# Altium footprint library Connector_Samtec_HLE_SMD.PcbLib: 290 footprints (part 11 of 24)
Each footprint in its own frame and in the unit in brackets; x right, y up, seen from the top. Pads: shape width x height; smd on the part's side, far side on the other; paste and mask are expansions set on the pad; w line width, h text height; cw(c..) or ccw(c..) is an arc to the next point about the centre after c.
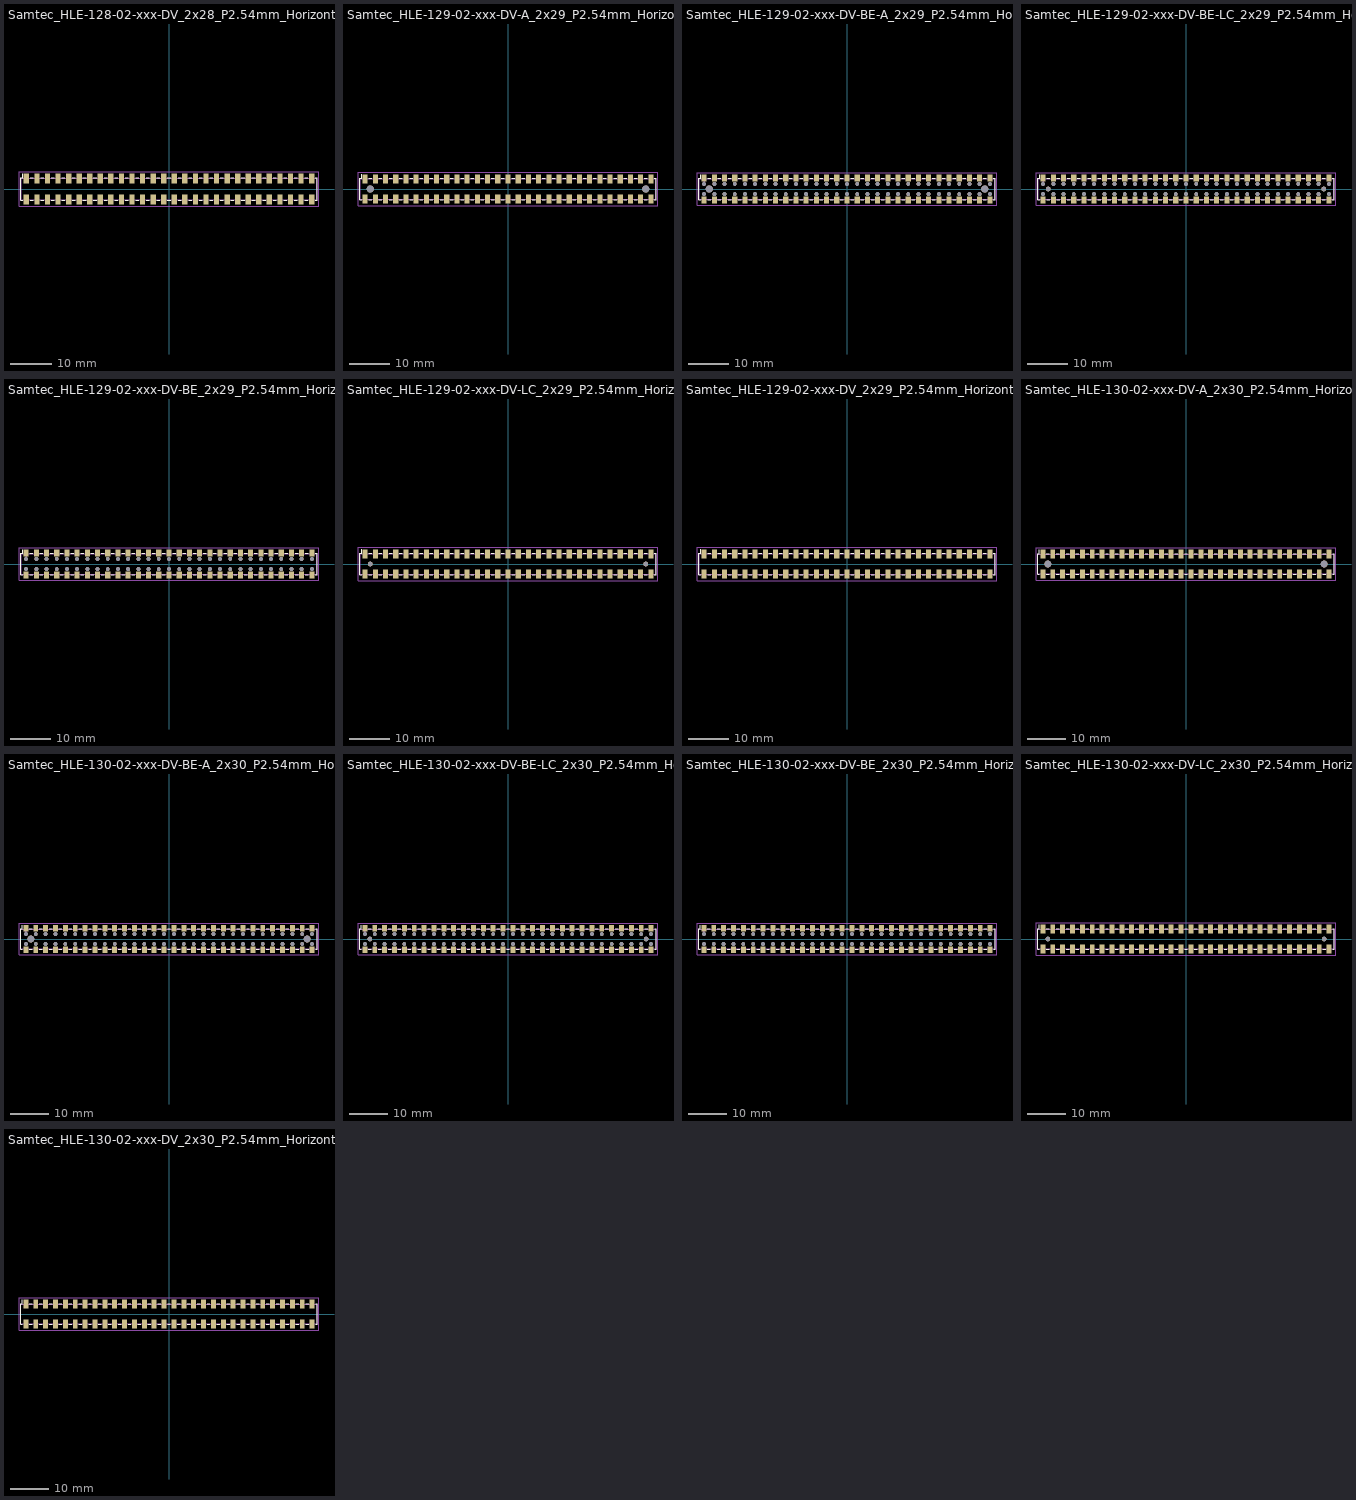
[diagram p10: the footprints below, top view; thin cyan lines are the x and y axes]

## Samtec_HLE-128-02-xxx-DV_2x28_P2.54mm_Horizontal [mm]
pads (56):
  rect 1.27x2.29 smd: 1(-34.29,2.525) 2(-34.29,-2.525) 3(-31.75,2.525) 4(-31.75,-2.525) 5(-29.21,2.525) 6(-29.21,-2.525) 7(-26.67,2.525) 8(-26.67,-2.525) 9(-24.13,2.525) 10(-24.13,-2.525) 11(-21.59,2.525) 12(-21.59,-2.525) 13(-19.05,2.525) 14(-19.05,-2.525) 15(-16.51,2.525) 16(-16.51,-2.525) 17(-13.97,2.525) 18(-13.97,-2.525) 19(-11.43,2.525) 20(-11.43,-2.525) 21(-8.89,2.525) 22(-8.89,-2.525) 23(-6.35,2.525) 24(-6.35,-2.525) 25(-3.81,2.525) 26(-3.81,-2.525) 27(-1.27,2.525) 28(-1.27,-2.525) 29(1.27,2.525) 30(1.27,-2.525) 31(3.81,2.525) 32(3.81,-2.525) 33(6.35,2.525) 34(6.35,-2.525) 35(8.89,2.525) 36(8.89,-2.525) 37(11.43,2.525) 38(11.43,-2.525) 39(13.97,2.525) 40(13.97,-2.525) 41(16.51,2.525) 42(16.51,-2.525) 43(19.05,2.525) 44(19.05,-2.525) 45(21.59,2.525) 46(21.59,-2.525) 47(24.13,2.525) 48(24.13,-2.525) 49(26.67,2.525) 50(26.67,-2.525) 51(29.21,2.525) 52(29.21,-2.525) 53(31.75,2.525) 54(31.75,-2.525) 55(34.29,2.525) 56(34.29,-2.525)
F.SilkS:
  lines w0.254: -35.185,-2.65 -35.67,-2.65 -35.67,2.65 -35.185,2.65 -35.185,3.67 ; -33.395,-2.65 -32.645,-2.65 ; -33.395,2.65 -32.645,2.65 ; -30.855,-2.65 -30.105,-2.65 ; -30.855,2.65 -30.105,2.65 ; -28.315,-2.65 -27.565,-2.65 ; -28.315,2.65 -27.565,2.65 ; -25.775,-2.65 -25.025,-2.65 ; -25.775,2.65 -25.025,2.65 ; -23.235,-2.65 -22.485,-2.65 ; -23.235,2.65 -22.485,2.65 ; -20.695,-2.65 -19.945,-2.65 ; -20.695,2.65 -19.945,2.65 ; -18.155,-2.65 -17.405,-2.65 ; -18.155,2.65 -17.405,2.65 ; -15.615,-2.65 -14.865,-2.65 ; -15.615,2.65 -14.865,2.65 ; -13.075,-2.65 -12.325,-2.65 ; -13.075,2.65 -12.325,2.65 ; -10.535,-2.65 -9.785,-2.65 ; -10.535,2.65 -9.785,2.65 ; -7.995,-2.65 -7.245,-2.65 ; -7.995,2.65 -7.245,2.65 ; -5.455,-2.65 -4.705,-2.65 ; -5.455,2.65 -4.705,2.65 ; -2.915,-2.65 -2.165,-2.65 ; -2.915,2.65 -2.165,2.65 ; -0.375,-2.65 0.375,-2.65 ; -0.375,2.65 0.375,2.65 ; 2.165,-2.65 2.915,-2.65 ; 2.165,2.65 2.915,2.65 ; 4.705,-2.65 5.455,-2.65 ; 4.705,2.65 5.455,2.65 ; 7.245,-2.65 7.995,-2.65 ; 7.245,2.65 7.995,2.65 ; 9.785,-2.65 10.535,-2.65 ; 9.785,2.65 10.535,2.65 ; 12.325,-2.65 13.075,-2.65 ; 12.325,2.65 13.075,2.65 ; 14.865,-2.65 15.615,-2.65 ; 14.865,2.65 15.615,2.65 ; 17.405,-2.65 18.155,-2.65 ; 17.405,2.65 18.155,2.65 ; 19.945,-2.65 20.695,-2.65 ; 19.945,2.65 20.695,2.65 ; 22.485,-2.65 23.235,-2.65 ; 22.485,2.65 23.235,2.65 ; 25.025,-2.65 25.775,-2.65 ; 25.025,2.65 25.775,2.65 ; 27.565,-2.65 28.315,-2.65 ; 27.565,2.65 28.315,2.65 ; 30.105,-2.65 30.855,-2.65 ; 30.105,2.65 30.855,2.65 ; 32.645,-2.65 33.395,-2.65 ; 32.645,2.65 33.395,2.65 ; 35.185,-2.65 35.67,-2.65 35.67,2.65 35.185,2.65
Top Assembly:
  lines w0.254: -34.79,2.54 -34.29,1.833 -33.79,2.54 ; -35.56,-2.54 35.56,-2.54 35.56,2.54 -35.56,2.54 -35.56,-2.54
  text "'.Designator'" at -4.047,-2.68 h1
Top Courtyard:
  lines w0.254: -36.06,-4.17 36.06,-4.17 36.06,4.17 -36.06,4.17 -36.06,-4.17
Top Designator:
  text ".Designator" at -7.618,-0.508 h1.52

## Samtec_HLE-129-02-xxx-DV-A_2x29_P2.54mm_Horizontal [mm]
pads (60):
  rect 1.27x2.29 smd: 1(-35.56,2.525) 2(-35.56,-2.525) 3(-33.02,2.525) 4(-33.02,-2.525) 5(-30.48,2.525) 6(-30.48,-2.525) 7(-27.94,2.525) 8(-27.94,-2.525) 9(-25.4,2.525) 10(-25.4,-2.525) 11(-22.86,2.525) 12(-22.86,-2.525) 13(-20.32,2.525) 14(-20.32,-2.525) 15(-17.78,2.525) 16(-17.78,-2.525) 17(-15.24,2.525) 18(-15.24,-2.525) 19(-12.7,2.525) 20(-12.7,-2.525) 21(-10.16,2.525) 22(-10.16,-2.525) 23(-7.62,2.525) 24(-7.62,-2.525) 25(-5.08,2.525) 26(-5.08,-2.525) 27(-2.54,2.525) 28(-2.54,-2.525) 29(0,2.525) 30(0,-2.525) 31(2.54,2.525) 32(2.54,-2.525) 33(5.08,2.525) 34(5.08,-2.525) 35(7.62,2.525) 36(7.62,-2.525) 37(10.16,2.525) 38(10.16,-2.525) 39(12.7,2.525) 40(12.7,-2.525) 41(15.24,2.525) 42(15.24,-2.525) 43(17.78,2.525) 44(17.78,-2.525) 45(20.32,2.525) 46(20.32,-2.525) 47(22.86,2.525) 48(22.86,-2.525) 49(25.4,2.525) 50(25.4,-2.525) 51(27.94,2.525) 52(27.94,-2.525) 53(30.48,2.525) 54(30.48,-2.525) 55(33.02,2.525) 56(33.02,-2.525) 57(35.56,2.525) 58(35.56,-2.525)
  round 1.78 hole 1.78: Un1(-34.29,0) Un2(34.29,0)
F.SilkS:
  lines w0.254: -36.455,-2.65 -36.94,-2.65 -36.94,2.65 -36.455,2.65 -36.455,3.67 ; -34.665,-2.65 -33.915,-2.65 ; -34.665,2.65 -33.915,2.65 ; -32.125,-2.65 -31.375,-2.65 ; -32.125,2.65 -31.375,2.65 ; -29.585,-2.65 -28.835,-2.65 ; -29.585,2.65 -28.835,2.65 ; -27.045,-2.65 -26.295,-2.65 ; -27.045,2.65 -26.295,2.65 ; -24.505,-2.65 -23.755,-2.65 ; -24.505,2.65 -23.755,2.65 ; -21.965,-2.65 -21.215,-2.65 ; -21.965,2.65 -21.215,2.65 ; -19.425,-2.65 -18.675,-2.65 ; -19.425,2.65 -18.675,2.65 ; -16.885,-2.65 -16.135,-2.65 ; -16.885,2.65 -16.135,2.65 ; -14.345,-2.65 -13.595,-2.65 ; -14.345,2.65 -13.595,2.65 ; -11.805,-2.65 -11.055,-2.65 ; -11.805,2.65 -11.055,2.65 ; -9.265,-2.65 -8.515,-2.65 ; -9.265,2.65 -8.515,2.65 ; -6.725,-2.65 -5.975,-2.65 ; -6.725,2.65 -5.975,2.65 ; -4.185,-2.65 -3.435,-2.65 ; -4.185,2.65 -3.435,2.65 ; -1.645,-2.65 -0.895,-2.65 ; -1.645,2.65 -0.895,2.65 ; 0.895,-2.65 1.645,-2.65 ; 0.895,2.65 1.645,2.65 ; 3.435,-2.65 4.185,-2.65 ; 3.435,2.65 4.185,2.65 ; 5.975,-2.65 6.725,-2.65 ; 5.975,2.65 6.725,2.65 ; 8.515,-2.65 9.265,-2.65 ; 8.515,2.65 9.265,2.65 ; 11.055,-2.65 11.805,-2.65 ; 11.055,2.65 11.805,2.65 ; 13.595,-2.65 14.345,-2.65 ; 13.595,2.65 14.345,2.65 ; 16.135,-2.65 16.885,-2.65 ; 16.135,2.65 16.885,2.65 ; 18.675,-2.65 19.425,-2.65 ; 18.675,2.65 19.425,2.65 ; 21.215,-2.65 21.965,-2.65 ; 21.215,2.65 21.965,2.65 ; 23.755,-2.65 24.505,-2.65 ; 23.755,2.65 24.505,2.65 ; 26.295,-2.65 27.045,-2.65 ; 26.295,2.65 27.045,2.65 ; 28.835,-2.65 29.585,-2.65 ; 28.835,2.65 29.585,2.65 ; 31.375,-2.65 32.125,-2.65 ; 31.375,2.65 32.125,2.65 ; 33.915,-2.65 34.665,-2.65 ; 33.915,2.65 34.665,2.65 ; 36.455,-2.65 36.94,-2.65 36.94,2.65 36.455,2.65
Top Assembly:
  lines w0.254: -36.06,2.54 -35.56,1.833 -35.06,2.54 ; -36.83,-2.54 36.83,-2.54 36.83,2.54 -36.83,2.54 -36.83,-2.54
  text "'.Designator'" at -4.047,-2.68 h1
Top Courtyard:
  lines w0.254: -37.33,-4.17 37.33,-4.17 37.33,4.17 -37.33,4.17 -37.33,-4.17
Top Designator:
  text ".Designator" at -7.618,-0.508 h1.52

## Samtec_HLE-129-02-xxx-DV-BE-A_2x29_P2.54mm_Horizontal [mm]
pads (118):
  rect 1.27x1.68 smd: 1(-35.56,2.72) 2(-35.56,-2.72) 3(-33.02,2.72) 4(-33.02,-2.72) 5(-30.48,2.72) 6(-30.48,-2.72) 7(-27.94,2.72) 8(-27.94,-2.72) 9(-25.4,2.72) 10(-25.4,-2.72) 11(-22.86,2.72) 12(-22.86,-2.72) 13(-20.32,2.72) 14(-20.32,-2.72) 15(-17.78,2.72) 16(-17.78,-2.72) 17(-15.24,2.72) 18(-15.24,-2.72) 19(-12.7,2.72) 20(-12.7,-2.72) 21(-10.16,2.72) 22(-10.16,-2.72) 23(-7.62,2.72) 24(-7.62,-2.72) 25(-5.08,2.72) 26(-5.08,-2.72) 27(-2.54,2.72) 28(-2.54,-2.72) 29(0,2.72) 30(0,-2.72) 31(2.54,2.72) 32(2.54,-2.72) 33(5.08,2.72) 34(5.08,-2.72) 35(7.62,2.72) 36(7.62,-2.72) 37(10.16,2.72) 38(10.16,-2.72) 39(12.7,2.72) 40(12.7,-2.72) 41(15.24,2.72) 42(15.24,-2.72) 43(17.78,2.72) 44(17.78,-2.72) 45(20.32,2.72) 46(20.32,-2.72) 47(22.86,2.72) 48(22.86,-2.72) 49(25.4,2.72) 50(25.4,-2.72) 51(27.94,2.72) 52(27.94,-2.72) 53(30.48,2.72) 54(30.48,-2.72) 55(33.02,2.72) 56(33.02,-2.72) 57(35.56,2.72) 58(35.56,-2.72)
  round 0.97 hole 0.97: Un1(-35.56,1.27) Un2(-35.56,-1.27) Un4(-33.02,1.27) Un5(-33.02,-1.27) Un6(-30.48,1.27) Un7(-30.48,-1.27) Un8(-27.94,1.27) Un9(-27.94,-1.27) Un10(-25.4,1.27) Un11(-25.4,-1.27) Un12(-22.86,1.27) Un13(-22.86,-1.27) Un14(-20.32,1.27) Un15(-20.32,-1.27) Un16(-17.78,1.27) Un17(-17.78,-1.27) Un18(-15.24,1.27) Un19(-15.24,-1.27) Un20(-12.7,1.27) Un21(-12.7,-1.27) Un22(-10.16,1.27) Un23(-10.16,-1.27) Un24(-7.62,1.27) Un25(-7.62,-1.27) Un26(-5.08,1.27) Un27(-5.08,-1.27) Un28(-2.54,1.27) Un29(-2.54,-1.27) Un30(0,1.27) Un31(0,-1.27) Un32(2.54,1.27) Un33(2.54,-1.27) Un34(5.08,1.27) Un35(5.08,-1.27) Un36(7.62,1.27) Un37(7.62,-1.27) Un38(10.16,1.27) Un39(10.16,-1.27) Un40(12.7,1.27) Un41(12.7,-1.27) Un42(15.24,1.27) Un43(15.24,-1.27) Un44(17.78,1.27) Un45(17.78,-1.27) Un46(20.32,1.27) Un47(20.32,-1.27) Un48(22.86,1.27) Un49(22.86,-1.27) Un50(25.4,1.27) Un51(25.4,-1.27) Un52(27.94,1.27) Un53(27.94,-1.27) Un54(30.48,1.27) Un55(30.48,-1.27) Un56(33.02,1.27) Un57(33.02,-1.27) Un59(35.56,1.27) Un60(35.56,-1.27)
  round 1.78 hole 1.78: Un3(-34.29,0) Un58(34.29,0)
F.SilkS:
  lines w0.254: -36.455,-2.65 -36.94,-2.65 -36.94,2.65 -36.455,2.65 -36.455,3.56 ; -34.665,-2.65 -33.915,-2.65 ; -34.665,2.65 -33.915,2.65 ; -32.125,-2.65 -31.375,-2.65 ; -32.125,2.65 -31.375,2.65 ; -29.585,-2.65 -28.835,-2.65 ; -29.585,2.65 -28.835,2.65 ; -27.045,-2.65 -26.295,-2.65 ; -27.045,2.65 -26.295,2.65 ; -24.505,-2.65 -23.755,-2.65 ; -24.505,2.65 -23.755,2.65 ; -21.965,-2.65 -21.215,-2.65 ; -21.965,2.65 -21.215,2.65 ; -19.425,-2.65 -18.675,-2.65 ; -19.425,2.65 -18.675,2.65 ; -16.885,-2.65 -16.135,-2.65 ; -16.885,2.65 -16.135,2.65 ; -14.345,-2.65 -13.595,-2.65 ; -14.345,2.65 -13.595,2.65 ; -11.805,-2.65 -11.055,-2.65 ; -11.805,2.65 -11.055,2.65 ; -9.265,-2.65 -8.515,-2.65 ; -9.265,2.65 -8.515,2.65 ; -6.725,-2.65 -5.975,-2.65 ; -6.725,2.65 -5.975,2.65 ; -4.185,-2.65 -3.435,-2.65 ; -4.185,2.65 -3.435,2.65 ; -1.645,-2.65 -0.895,-2.65 ; -1.645,2.65 -0.895,2.65 ; 0.895,-2.65 1.645,-2.65 ; 0.895,2.65 1.645,2.65 ; 3.435,-2.65 4.185,-2.65 ; 3.435,2.65 4.185,2.65 ; 5.975,-2.65 6.725,-2.65 ; 5.975,2.65 6.725,2.65 ; 8.515,-2.65 9.265,-2.65 ; 8.515,2.65 9.265,2.65 ; 11.055,-2.65 11.805,-2.65 ; 11.055,2.65 11.805,2.65 ; 13.595,-2.65 14.345,-2.65 ; 13.595,2.65 14.345,2.65 ; 16.135,-2.65 16.885,-2.65 ; 16.135,2.65 16.885,2.65 ; 18.675,-2.65 19.425,-2.65 ; 18.675,2.65 19.425,2.65 ; 21.215,-2.65 21.965,-2.65 ; 21.215,2.65 21.965,2.65 ; 23.755,-2.65 24.505,-2.65 ; 23.755,2.65 24.505,2.65 ; 26.295,-2.65 27.045,-2.65 ; 26.295,2.65 27.045,2.65 ; 28.835,-2.65 29.585,-2.65 ; 28.835,2.65 29.585,2.65 ; 31.375,-2.65 32.125,-2.65 ; 31.375,2.65 32.125,2.65 ; 33.915,-2.65 34.665,-2.65 ; 33.915,2.65 34.665,2.65 ; 36.455,-2.65 36.94,-2.65 36.94,2.65 36.455,2.65
Top Assembly:
  lines w0.254: -36.06,2.54 -35.56,1.833 -35.06,2.54 ; -36.83,-2.54 36.83,-2.54 36.83,2.54 -36.83,2.54 -36.83,-2.54
  text "'.Designator'" at -4.047,-2.68 h1
Top Courtyard:
  lines w0.254: -37.33,-4.07 37.33,-4.07 37.33,4.07 -37.33,4.07 -37.33,-4.07
Top Designator:
  text ".Designator" at -7.618,-0.508 h1.52

## Samtec_HLE-129-02-xxx-DV-BE-LC_2x29_P2.54mm_Horizontal [mm]
pads (118):
  rect 1.27x1.68 smd: 1(-35.56,2.72) 2(-35.56,-2.72) 3(-33.02,2.72) 4(-33.02,-2.72) 5(-30.48,2.72) 6(-30.48,-2.72) 7(-27.94,2.72) 8(-27.94,-2.72) 9(-25.4,2.72) 10(-25.4,-2.72) 11(-22.86,2.72) 12(-22.86,-2.72) 13(-20.32,2.72) 14(-20.32,-2.72) 15(-17.78,2.72) 16(-17.78,-2.72) 17(-15.24,2.72) 18(-15.24,-2.72) 19(-12.7,2.72) 20(-12.7,-2.72) 21(-10.16,2.72) 22(-10.16,-2.72) 23(-7.62,2.72) 24(-7.62,-2.72) 25(-5.08,2.72) 26(-5.08,-2.72) 27(-2.54,2.72) 28(-2.54,-2.72) 29(0,2.72) 30(0,-2.72) 31(2.54,2.72) 32(2.54,-2.72) 33(5.08,2.72) 34(5.08,-2.72) 35(7.62,2.72) 36(7.62,-2.72) 37(10.16,2.72) 38(10.16,-2.72) 39(12.7,2.72) 40(12.7,-2.72) 41(15.24,2.72) 42(15.24,-2.72) 43(17.78,2.72) 44(17.78,-2.72) 45(20.32,2.72) 46(20.32,-2.72) 47(22.86,2.72) 48(22.86,-2.72) 49(25.4,2.72) 50(25.4,-2.72) 51(27.94,2.72) 52(27.94,-2.72) 53(30.48,2.72) 54(30.48,-2.72) 55(33.02,2.72) 56(33.02,-2.72) 57(35.56,2.72) 58(35.56,-2.72)
  round 0.97 hole 0.97: Un1(-35.56,1.27) Un2(-35.56,-1.27) Un4(-33.02,1.27) Un5(-33.02,-1.27) Un6(-30.48,1.27) Un7(-30.48,-1.27) Un8(-27.94,1.27) Un9(-27.94,-1.27) Un10(-25.4,1.27) Un11(-25.4,-1.27) Un12(-22.86,1.27) Un13(-22.86,-1.27) Un14(-20.32,1.27) Un15(-20.32,-1.27) Un16(-17.78,1.27) Un17(-17.78,-1.27) Un18(-15.24,1.27) Un19(-15.24,-1.27) Un20(-12.7,1.27) Un21(-12.7,-1.27) Un22(-10.16,1.27) Un23(-10.16,-1.27) Un24(-7.62,1.27) Un25(-7.62,-1.27) Un26(-5.08,1.27) Un27(-5.08,-1.27) Un28(-2.54,1.27) Un29(-2.54,-1.27) Un30(0,1.27) Un31(0,-1.27) Un32(2.54,1.27) Un33(2.54,-1.27) Un34(5.08,1.27) Un35(5.08,-1.27) Un36(7.62,1.27) Un37(7.62,-1.27) Un38(10.16,1.27) Un39(10.16,-1.27) Un40(12.7,1.27) Un41(12.7,-1.27) Un42(15.24,1.27) Un43(15.24,-1.27) Un44(17.78,1.27) Un45(17.78,-1.27) Un46(20.32,1.27) Un47(20.32,-1.27) Un48(22.86,1.27) Un49(22.86,-1.27) Un50(25.4,1.27) Un51(25.4,-1.27) Un52(27.94,1.27) Un53(27.94,-1.27) Un54(30.48,1.27) Un55(30.48,-1.27) Un56(33.02,1.27) Un57(33.02,-1.27) Un59(35.56,1.27) Un60(35.56,-1.27)
  round 1.19 hole 1.19: Un3(-34.29,0) Un58(34.29,0)
F.SilkS:
  lines w0.254: -36.455,-2.65 -36.94,-2.65 -36.94,2.65 -36.455,2.65 -36.455,3.56 ; -34.665,-2.65 -33.915,-2.65 ; -34.665,2.65 -33.915,2.65 ; -32.125,-2.65 -31.375,-2.65 ; -32.125,2.65 -31.375,2.65 ; -29.585,-2.65 -28.835,-2.65 ; -29.585,2.65 -28.835,2.65 ; -27.045,-2.65 -26.295,-2.65 ; -27.045,2.65 -26.295,2.65 ; -24.505,-2.65 -23.755,-2.65 ; -24.505,2.65 -23.755,2.65 ; -21.965,-2.65 -21.215,-2.65 ; -21.965,2.65 -21.215,2.65 ; -19.425,-2.65 -18.675,-2.65 ; -19.425,2.65 -18.675,2.65 ; -16.885,-2.65 -16.135,-2.65 ; -16.885,2.65 -16.135,2.65 ; -14.345,-2.65 -13.595,-2.65 ; -14.345,2.65 -13.595,2.65 ; -11.805,-2.65 -11.055,-2.65 ; -11.805,2.65 -11.055,2.65 ; -9.265,-2.65 -8.515,-2.65 ; -9.265,2.65 -8.515,2.65 ; -6.725,-2.65 -5.975,-2.65 ; -6.725,2.65 -5.975,2.65 ; -4.185,-2.65 -3.435,-2.65 ; -4.185,2.65 -3.435,2.65 ; -1.645,-2.65 -0.895,-2.65 ; -1.645,2.65 -0.895,2.65 ; 0.895,-2.65 1.645,-2.65 ; 0.895,2.65 1.645,2.65 ; 3.435,-2.65 4.185,-2.65 ; 3.435,2.65 4.185,2.65 ; 5.975,-2.65 6.725,-2.65 ; 5.975,2.65 6.725,2.65 ; 8.515,-2.65 9.265,-2.65 ; 8.515,2.65 9.265,2.65 ; 11.055,-2.65 11.805,-2.65 ; 11.055,2.65 11.805,2.65 ; 13.595,-2.65 14.345,-2.65 ; 13.595,2.65 14.345,2.65 ; 16.135,-2.65 16.885,-2.65 ; 16.135,2.65 16.885,2.65 ; 18.675,-2.65 19.425,-2.65 ; 18.675,2.65 19.425,2.65 ; 21.215,-2.65 21.965,-2.65 ; 21.215,2.65 21.965,2.65 ; 23.755,-2.65 24.505,-2.65 ; 23.755,2.65 24.505,2.65 ; 26.295,-2.65 27.045,-2.65 ; 26.295,2.65 27.045,2.65 ; 28.835,-2.65 29.585,-2.65 ; 28.835,2.65 29.585,2.65 ; 31.375,-2.65 32.125,-2.65 ; 31.375,2.65 32.125,2.65 ; 33.915,-2.65 34.665,-2.65 ; 33.915,2.65 34.665,2.65 ; 36.455,-2.65 36.94,-2.65 36.94,2.65 36.455,2.65
Top Assembly:
  lines w0.254: -36.06,2.54 -35.56,1.833 -35.06,2.54 ; -36.83,-2.54 36.83,-2.54 36.83,2.54 -36.83,2.54 -36.83,-2.54
  text "'.Designator'" at -4.047,-2.68 h1
Top Courtyard:
  lines w0.254: -37.33,-4.07 37.33,-4.07 37.33,4.07 -37.33,4.07 -37.33,-4.07
Top Designator:
  text ".Designator" at -7.618,-0.508 h1.52

## Samtec_HLE-129-02-xxx-DV-BE_2x29_P2.54mm_Horizontal [mm]
pads (116):
  rect 1.27x1.68 smd: 1(-35.56,2.72) 2(-35.56,-2.72) 3(-33.02,2.72) 4(-33.02,-2.72) 5(-30.48,2.72) 6(-30.48,-2.72) 7(-27.94,2.72) 8(-27.94,-2.72) 9(-25.4,2.72) 10(-25.4,-2.72) 11(-22.86,2.72) 12(-22.86,-2.72) 13(-20.32,2.72) 14(-20.32,-2.72) 15(-17.78,2.72) 16(-17.78,-2.72) 17(-15.24,2.72) 18(-15.24,-2.72) 19(-12.7,2.72) 20(-12.7,-2.72) 21(-10.16,2.72) 22(-10.16,-2.72) 23(-7.62,2.72) 24(-7.62,-2.72) 25(-5.08,2.72) 26(-5.08,-2.72) 27(-2.54,2.72) 28(-2.54,-2.72) 29(0,2.72) 30(0,-2.72) 31(2.54,2.72) 32(2.54,-2.72) 33(5.08,2.72) 34(5.08,-2.72) 35(7.62,2.72) 36(7.62,-2.72) 37(10.16,2.72) 38(10.16,-2.72) 39(12.7,2.72) 40(12.7,-2.72) 41(15.24,2.72) 42(15.24,-2.72) 43(17.78,2.72) 44(17.78,-2.72) 45(20.32,2.72) 46(20.32,-2.72) 47(22.86,2.72) 48(22.86,-2.72) 49(25.4,2.72) 50(25.4,-2.72) 51(27.94,2.72) 52(27.94,-2.72) 53(30.48,2.72) 54(30.48,-2.72) 55(33.02,2.72) 56(33.02,-2.72) 57(35.56,2.72) 58(35.56,-2.72)
  round 0.97 hole 0.97: Un1(-35.56,1.27) Un2(-35.56,-1.27) Un3(-33.02,1.27) Un4(-33.02,-1.27) Un5(-30.48,1.27) Un6(-30.48,-1.27) Un7(-27.94,1.27) Un8(-27.94,-1.27) Un9(-25.4,1.27) Un10(-25.4,-1.27) Un11(-22.86,1.27) Un12(-22.86,-1.27) Un13(-20.32,1.27) Un14(-20.32,-1.27) Un15(-17.78,1.27) Un16(-17.78,-1.27) Un17(-15.24,1.27) Un18(-15.24,-1.27) Un19(-12.7,1.27) Un20(-12.7,-1.27) Un21(-10.16,1.27) Un22(-10.16,-1.27) Un23(-7.62,1.27) Un24(-7.62,-1.27) Un25(-5.08,1.27) Un26(-5.08,-1.27) Un27(-2.54,1.27) Un28(-2.54,-1.27) Un29(0,1.27) Un30(0,-1.27) Un31(2.54,1.27) Un32(2.54,-1.27) Un33(5.08,1.27) Un34(5.08,-1.27) Un35(7.62,1.27) Un36(7.62,-1.27) Un37(10.16,1.27) Un38(10.16,-1.27) Un39(12.7,1.27) Un40(12.7,-1.27) Un41(15.24,1.27) Un42(15.24,-1.27) Un43(17.78,1.27) Un44(17.78,-1.27) Un45(20.32,1.27) Un46(20.32,-1.27) Un47(22.86,1.27) Un48(22.86,-1.27) Un49(25.4,1.27) Un50(25.4,-1.27) Un51(27.94,1.27) Un52(27.94,-1.27) Un53(30.48,1.27) Un54(30.48,-1.27) Un55(33.02,1.27) Un56(33.02,-1.27) Un57(35.56,1.27) Un58(35.56,-1.27)
F.SilkS:
  lines w0.254: -36.455,-2.65 -36.94,-2.65 -36.94,2.65 -36.455,2.65 -36.455,3.56 ; -34.665,-2.65 -33.915,-2.65 ; -34.665,2.65 -33.915,2.65 ; -32.125,-2.65 -31.375,-2.65 ; -32.125,2.65 -31.375,2.65 ; -29.585,-2.65 -28.835,-2.65 ; -29.585,2.65 -28.835,2.65 ; -27.045,-2.65 -26.295,-2.65 ; -27.045,2.65 -26.295,2.65 ; -24.505,-2.65 -23.755,-2.65 ; -24.505,2.65 -23.755,2.65 ; -21.965,-2.65 -21.215,-2.65 ; -21.965,2.65 -21.215,2.65 ; -19.425,-2.65 -18.675,-2.65 ; -19.425,2.65 -18.675,2.65 ; -16.885,-2.65 -16.135,-2.65 ; -16.885,2.65 -16.135,2.65 ; -14.345,-2.65 -13.595,-2.65 ; -14.345,2.65 -13.595,2.65 ; -11.805,-2.65 -11.055,-2.65 ; -11.805,2.65 -11.055,2.65 ; -9.265,-2.65 -8.515,-2.65 ; -9.265,2.65 -8.515,2.65 ; -6.725,-2.65 -5.975,-2.65 ; -6.725,2.65 -5.975,2.65 ; -4.185,-2.65 -3.435,-2.65 ; -4.185,2.65 -3.435,2.65 ; -1.645,-2.65 -0.895,-2.65 ; -1.645,2.65 -0.895,2.65 ; 0.895,-2.65 1.645,-2.65 ; 0.895,2.65 1.645,2.65 ; 3.435,-2.65 4.185,-2.65 ; 3.435,2.65 4.185,2.65 ; 5.975,-2.65 6.725,-2.65 ; 5.975,2.65 6.725,2.65 ; 8.515,-2.65 9.265,-2.65 ; 8.515,2.65 9.265,2.65 ; 11.055,-2.65 11.805,-2.65 ; 11.055,2.65 11.805,2.65 ; 13.595,-2.65 14.345,-2.65 ; 13.595,2.65 14.345,2.65 ; 16.135,-2.65 16.885,-2.65 ; 16.135,2.65 16.885,2.65 ; 18.675,-2.65 19.425,-2.65 ; 18.675,2.65 19.425,2.65 ; 21.215,-2.65 21.965,-2.65 ; 21.215,2.65 21.965,2.65 ; 23.755,-2.65 24.505,-2.65 ; 23.755,2.65 24.505,2.65 ; 26.295,-2.65 27.045,-2.65 ; 26.295,2.65 27.045,2.65 ; 28.835,-2.65 29.585,-2.65 ; 28.835,2.65 29.585,2.65 ; 31.375,-2.65 32.125,-2.65 ; 31.375,2.65 32.125,2.65 ; 33.915,-2.65 34.665,-2.65 ; 33.915,2.65 34.665,2.65 ; 36.455,-2.65 36.94,-2.65 36.94,2.65 36.455,2.65
Top Assembly:
  lines w0.254: -36.06,2.54 -35.56,1.833 -35.06,2.54 ; -36.83,-2.54 36.83,-2.54 36.83,2.54 -36.83,2.54 -36.83,-2.54
  text "'.Designator'" at -4.047,-2.68 h1
Top Courtyard:
  lines w0.254: -37.33,-4.07 37.33,-4.07 37.33,4.07 -37.33,4.07 -37.33,-4.07
Top Designator:
  text ".Designator" at -7.618,-0.508 h1.52

## Samtec_HLE-129-02-xxx-DV-LC_2x29_P2.54mm_Horizontal [mm]
pads (60):
  rect 1.27x2.29 smd: 1(-35.56,2.525) 2(-35.56,-2.525) 3(-33.02,2.525) 4(-33.02,-2.525) 5(-30.48,2.525) 6(-30.48,-2.525) 7(-27.94,2.525) 8(-27.94,-2.525) 9(-25.4,2.525) 10(-25.4,-2.525) 11(-22.86,2.525) 12(-22.86,-2.525) 13(-20.32,2.525) 14(-20.32,-2.525) 15(-17.78,2.525) 16(-17.78,-2.525) 17(-15.24,2.525) 18(-15.24,-2.525) 19(-12.7,2.525) 20(-12.7,-2.525) 21(-10.16,2.525) 22(-10.16,-2.525) 23(-7.62,2.525) 24(-7.62,-2.525) 25(-5.08,2.525) 26(-5.08,-2.525) 27(-2.54,2.525) 28(-2.54,-2.525) 29(0,2.525) 30(0,-2.525) 31(2.54,2.525) 32(2.54,-2.525) 33(5.08,2.525) 34(5.08,-2.525) 35(7.62,2.525) 36(7.62,-2.525) 37(10.16,2.525) 38(10.16,-2.525) 39(12.7,2.525) 40(12.7,-2.525) 41(15.24,2.525) 42(15.24,-2.525) 43(17.78,2.525) 44(17.78,-2.525) 45(20.32,2.525) 46(20.32,-2.525) 47(22.86,2.525) 48(22.86,-2.525) 49(25.4,2.525) 50(25.4,-2.525) 51(27.94,2.525) 52(27.94,-2.525) 53(30.48,2.525) 54(30.48,-2.525) 55(33.02,2.525) 56(33.02,-2.525) 57(35.56,2.525) 58(35.56,-2.525)
  round 1.19 hole 1.19: Un1(-34.29,0) Un2(34.29,0)
F.SilkS:
  lines w0.254: -36.455,-2.65 -36.94,-2.65 -36.94,2.65 -36.455,2.65 -36.455,3.67 ; -34.665,-2.65 -33.915,-2.65 ; -34.665,2.65 -33.915,2.65 ; -32.125,-2.65 -31.375,-2.65 ; -32.125,2.65 -31.375,2.65 ; -29.585,-2.65 -28.835,-2.65 ; -29.585,2.65 -28.835,2.65 ; -27.045,-2.65 -26.295,-2.65 ; -27.045,2.65 -26.295,2.65 ; -24.505,-2.65 -23.755,-2.65 ; -24.505,2.65 -23.755,2.65 ; -21.965,-2.65 -21.215,-2.65 ; -21.965,2.65 -21.215,2.65 ; -19.425,-2.65 -18.675,-2.65 ; -19.425,2.65 -18.675,2.65 ; -16.885,-2.65 -16.135,-2.65 ; -16.885,2.65 -16.135,2.65 ; -14.345,-2.65 -13.595,-2.65 ; -14.345,2.65 -13.595,2.65 ; -11.805,-2.65 -11.055,-2.65 ; -11.805,2.65 -11.055,2.65 ; -9.265,-2.65 -8.515,-2.65 ; -9.265,2.65 -8.515,2.65 ; -6.725,-2.65 -5.975,-2.65 ; -6.725,2.65 -5.975,2.65 ; -4.185,-2.65 -3.435,-2.65 ; -4.185,2.65 -3.435,2.65 ; -1.645,-2.65 -0.895,-2.65 ; -1.645,2.65 -0.895,2.65 ; 0.895,-2.65 1.645,-2.65 ; 0.895,2.65 1.645,2.65 ; 3.435,-2.65 4.185,-2.65 ; 3.435,2.65 4.185,2.65 ; 5.975,-2.65 6.725,-2.65 ; 5.975,2.65 6.725,2.65 ; 8.515,-2.65 9.265,-2.65 ; 8.515,2.65 9.265,2.65 ; 11.055,-2.65 11.805,-2.65 ; 11.055,2.65 11.805,2.65 ; 13.595,-2.65 14.345,-2.65 ; 13.595,2.65 14.345,2.65 ; 16.135,-2.65 16.885,-2.65 ; 16.135,2.65 16.885,2.65 ; 18.675,-2.65 19.425,-2.65 ; 18.675,2.65 19.425,2.65 ; 21.215,-2.65 21.965,-2.65 ; 21.215,2.65 21.965,2.65 ; 23.755,-2.65 24.505,-2.65 ; 23.755,2.65 24.505,2.65 ; 26.295,-2.65 27.045,-2.65 ; 26.295,2.65 27.045,2.65 ; 28.835,-2.65 29.585,-2.65 ; 28.835,2.65 29.585,2.65 ; 31.375,-2.65 32.125,-2.65 ; 31.375,2.65 32.125,2.65 ; 33.915,-2.65 34.665,-2.65 ; 33.915,2.65 34.665,2.65 ; 36.455,-2.65 36.94,-2.65 36.94,2.65 36.455,2.65
Top Assembly:
  lines w0.254: -36.06,2.54 -35.56,1.833 -35.06,2.54 ; -36.83,-2.54 36.83,-2.54 36.83,2.54 -36.83,2.54 -36.83,-2.54
  text "'.Designator'" at -4.047,-2.68 h1
Top Courtyard:
  lines w0.254: -37.33,-4.17 37.33,-4.17 37.33,4.17 -37.33,4.17 -37.33,-4.17
Top Designator:
  text ".Designator" at -7.618,-0.508 h1.52

## Samtec_HLE-129-02-xxx-DV_2x29_P2.54mm_Horizontal [mm]
pads (58):
  rect 1.27x2.29 smd: 1(-35.56,2.525) 2(-35.56,-2.525) 3(-33.02,2.525) 4(-33.02,-2.525) 5(-30.48,2.525) 6(-30.48,-2.525) 7(-27.94,2.525) 8(-27.94,-2.525) 9(-25.4,2.525) 10(-25.4,-2.525) 11(-22.86,2.525) 12(-22.86,-2.525) 13(-20.32,2.525) 14(-20.32,-2.525) 15(-17.78,2.525) 16(-17.78,-2.525) 17(-15.24,2.525) 18(-15.24,-2.525) 19(-12.7,2.525) 20(-12.7,-2.525) 21(-10.16,2.525) 22(-10.16,-2.525) 23(-7.62,2.525) 24(-7.62,-2.525) 25(-5.08,2.525) 26(-5.08,-2.525) 27(-2.54,2.525) 28(-2.54,-2.525) 29(0,2.525) 30(0,-2.525) 31(2.54,2.525) 32(2.54,-2.525) 33(5.08,2.525) 34(5.08,-2.525) 35(7.62,2.525) 36(7.62,-2.525) 37(10.16,2.525) 38(10.16,-2.525) 39(12.7,2.525) 40(12.7,-2.525) 41(15.24,2.525) 42(15.24,-2.525) 43(17.78,2.525) 44(17.78,-2.525) 45(20.32,2.525) 46(20.32,-2.525) 47(22.86,2.525) 48(22.86,-2.525) 49(25.4,2.525) 50(25.4,-2.525) 51(27.94,2.525) 52(27.94,-2.525) 53(30.48,2.525) 54(30.48,-2.525) 55(33.02,2.525) 56(33.02,-2.525) 57(35.56,2.525) 58(35.56,-2.525)
F.SilkS:
  lines w0.254: -36.455,-2.65 -36.94,-2.65 -36.94,2.65 -36.455,2.65 -36.455,3.67 ; -34.665,-2.65 -33.915,-2.65 ; -34.665,2.65 -33.915,2.65 ; -32.125,-2.65 -31.375,-2.65 ; -32.125,2.65 -31.375,2.65 ; -29.585,-2.65 -28.835,-2.65 ; -29.585,2.65 -28.835,2.65 ; -27.045,-2.65 -26.295,-2.65 ; -27.045,2.65 -26.295,2.65 ; -24.505,-2.65 -23.755,-2.65 ; -24.505,2.65 -23.755,2.65 ; -21.965,-2.65 -21.215,-2.65 ; -21.965,2.65 -21.215,2.65 ; -19.425,-2.65 -18.675,-2.65 ; -19.425,2.65 -18.675,2.65 ; -16.885,-2.65 -16.135,-2.65 ; -16.885,2.65 -16.135,2.65 ; -14.345,-2.65 -13.595,-2.65 ; -14.345,2.65 -13.595,2.65 ; -11.805,-2.65 -11.055,-2.65 ; -11.805,2.65 -11.055,2.65 ; -9.265,-2.65 -8.515,-2.65 ; -9.265,2.65 -8.515,2.65 ; -6.725,-2.65 -5.975,-2.65 ; -6.725,2.65 -5.975,2.65 ; -4.185,-2.65 -3.435,-2.65 ; -4.185,2.65 -3.435,2.65 ; -1.645,-2.65 -0.895,-2.65 ; -1.645,2.65 -0.895,2.65 ; 0.895,-2.65 1.645,-2.65 ; 0.895,2.65 1.645,2.65 ; 3.435,-2.65 4.185,-2.65 ; 3.435,2.65 4.185,2.65 ; 5.975,-2.65 6.725,-2.65 ; 5.975,2.65 6.725,2.65 ; 8.515,-2.65 9.265,-2.65 ; 8.515,2.65 9.265,2.65 ; 11.055,-2.65 11.805,-2.65 ; 11.055,2.65 11.805,2.65 ; 13.595,-2.65 14.345,-2.65 ; 13.595,2.65 14.345,2.65 ; 16.135,-2.65 16.885,-2.65 ; 16.135,2.65 16.885,2.65 ; 18.675,-2.65 19.425,-2.65 ; 18.675,2.65 19.425,2.65 ; 21.215,-2.65 21.965,-2.65 ; 21.215,2.65 21.965,2.65 ; 23.755,-2.65 24.505,-2.65 ; 23.755,2.65 24.505,2.65 ; 26.295,-2.65 27.045,-2.65 ; 26.295,2.65 27.045,2.65 ; 28.835,-2.65 29.585,-2.65 ; 28.835,2.65 29.585,2.65 ; 31.375,-2.65 32.125,-2.65 ; 31.375,2.65 32.125,2.65 ; 33.915,-2.65 34.665,-2.65 ; 33.915,2.65 34.665,2.65 ; 36.455,-2.65 36.94,-2.65 36.94,2.65 36.455,2.65
Top Assembly:
  lines w0.254: -36.06,2.54 -35.56,1.833 -35.06,2.54 ; -36.83,-2.54 36.83,-2.54 36.83,2.54 -36.83,2.54 -36.83,-2.54
  text "'.Designator'" at -4.047,-2.68 h1
Top Courtyard:
  lines w0.254: -37.33,-4.17 37.33,-4.17 37.33,4.17 -37.33,4.17 -37.33,-4.17
Top Designator:
  text ".Designator" at -7.618,-0.508 h1.52

## Samtec_HLE-130-02-xxx-DV-A_2x30_P2.54mm_Horizontal [mm]
pads (62):
  rect 1.27x2.29 smd: 1(-36.83,2.525) 2(-36.83,-2.525) 3(-34.29,2.525) 4(-34.29,-2.525) 5(-31.75,2.525) 6(-31.75,-2.525) 7(-29.21,2.525) 8(-29.21,-2.525) 9(-26.67,2.525) 10(-26.67,-2.525) 11(-24.13,2.525) 12(-24.13,-2.525) 13(-21.59,2.525) 14(-21.59,-2.525) 15(-19.05,2.525) 16(-19.05,-2.525) 17(-16.51,2.525) 18(-16.51,-2.525) 19(-13.97,2.525) 20(-13.97,-2.525) 21(-11.43,2.525) 22(-11.43,-2.525) 23(-8.89,2.525) 24(-8.89,-2.525) 25(-6.35,2.525) 26(-6.35,-2.525) 27(-3.81,2.525) 28(-3.81,-2.525) 29(-1.27,2.525) 30(-1.27,-2.525) 31(1.27,2.525) 32(1.27,-2.525) 33(3.81,2.525) 34(3.81,-2.525) 35(6.35,2.525) 36(6.35,-2.525) 37(8.89,2.525) 38(8.89,-2.525) 39(11.43,2.525) 40(11.43,-2.525) 41(13.97,2.525) 42(13.97,-2.525) 43(16.51,2.525) 44(16.51,-2.525) 45(19.05,2.525) 46(19.05,-2.525) 47(21.59,2.525) 48(21.59,-2.525) 49(24.13,2.525) 50(24.13,-2.525) 51(26.67,2.525) 52(26.67,-2.525) 53(29.21,2.525) 54(29.21,-2.525) 55(31.75,2.525) 56(31.75,-2.525) 57(34.29,2.525) 58(34.29,-2.525) 59(36.83,2.525) 60(36.83,-2.525)
  round 1.78 hole 1.78: Un1(-35.56,0) Un2(35.56,0)
F.SilkS:
  lines w0.254: -37.725,-2.65 -38.21,-2.65 -38.21,2.65 -37.725,2.65 -37.725,3.67 ; -35.935,-2.65 -35.185,-2.65 ; -35.935,2.65 -35.185,2.65 ; -33.395,-2.65 -32.645,-2.65 ; -33.395,2.65 -32.645,2.65 ; -30.855,-2.65 -30.105,-2.65 ; -30.855,2.65 -30.105,2.65 ; -28.315,-2.65 -27.565,-2.65 ; -28.315,2.65 -27.565,2.65 ; -25.775,-2.65 -25.025,-2.65 ; -25.775,2.65 -25.025,2.65 ; -23.235,-2.65 -22.485,-2.65 ; -23.235,2.65 -22.485,2.65 ; -20.695,-2.65 -19.945,-2.65 ; -20.695,2.65 -19.945,2.65 ; -18.155,-2.65 -17.405,-2.65 ; -18.155,2.65 -17.405,2.65 ; -15.615,-2.65 -14.865,-2.65 ; -15.615,2.65 -14.865,2.65 ; -13.075,-2.65 -12.325,-2.65 ; -13.075,2.65 -12.325,2.65 ; -10.535,-2.65 -9.785,-2.65 ; -10.535,2.65 -9.785,2.65 ; -7.995,-2.65 -7.245,-2.65 ; -7.995,2.65 -7.245,2.65 ; -5.455,-2.65 -4.705,-2.65 ; -5.455,2.65 -4.705,2.65 ; -2.915,-2.65 -2.165,-2.65 ; -2.915,2.65 -2.165,2.65 ; -0.375,-2.65 0.375,-2.65 ; -0.375,2.65 0.375,2.65 ; 2.165,-2.65 2.915,-2.65 ; 2.165,2.65 2.915,2.65 ; 4.705,-2.65 5.455,-2.65 ; 4.705,2.65 5.455,2.65 ; 7.245,-2.65 7.995,-2.65 ; 7.245,2.65 7.995,2.65 ; 9.785,-2.65 10.535,-2.65 ; 9.785,2.65 10.535,2.65 ; 12.325,-2.65 13.075,-2.65 ; 12.325,2.65 13.075,2.65 ; 14.865,-2.65 15.615,-2.65 ; 14.865,2.65 15.615,2.65 ; 17.405,-2.65 18.155,-2.65 ; 17.405,2.65 18.155,2.65 ; 19.945,-2.65 20.695,-2.65 ; 19.945,2.65 20.695,2.65 ; 22.485,-2.65 23.235,-2.65 ; 22.485,2.65 23.235,2.65 ; 25.025,-2.65 25.775,-2.65 ; 25.025,2.65 25.775,2.65 ; 27.565,-2.65 28.315,-2.65 ; 27.565,2.65 28.315,2.65 ; 30.105,-2.65 30.855,-2.65 ; 30.105,2.65 30.855,2.65 ; 32.645,-2.65 33.395,-2.65 ; 32.645,2.65 33.395,2.65 ; 35.185,-2.65 35.935,-2.65 ; 35.185,2.65 35.935,2.65 ; 37.725,-2.65 38.21,-2.65 38.21,2.65 37.725,2.65
Top Assembly:
  lines w0.254: -37.33,2.54 -36.83,1.833 -36.33,2.54 ; -38.1,-2.54 38.1,-2.54 38.1,2.54 -38.1,2.54 -38.1,-2.54
  text "'.Designator'" at -4.047,-2.68 h1
Top Courtyard:
  lines w0.254: -38.6,-4.17 38.6,-4.17 38.6,4.17 -38.6,4.17 -38.6,-4.17
Top Designator:
  text ".Designator" at -7.618,-0.508 h1.52

## Samtec_HLE-130-02-xxx-DV-BE-A_2x30_P2.54mm_Horizontal [mm]
pads (122):
  rect 1.27x1.68 smd: 1(-36.83,2.72) 2(-36.83,-2.72) 3(-34.29,2.72) 4(-34.29,-2.72) 5(-31.75,2.72) 6(-31.75,-2.72) 7(-29.21,2.72) 8(-29.21,-2.72) 9(-26.67,2.72) 10(-26.67,-2.72) 11(-24.13,2.72) 12(-24.13,-2.72) 13(-21.59,2.72) 14(-21.59,-2.72) 15(-19.05,2.72) 16(-19.05,-2.72) 17(-16.51,2.72) 18(-16.51,-2.72) 19(-13.97,2.72) 20(-13.97,-2.72) 21(-11.43,2.72) 22(-11.43,-2.72) 23(-8.89,2.72) 24(-8.89,-2.72) 25(-6.35,2.72) 26(-6.35,-2.72) 27(-3.81,2.72) 28(-3.81,-2.72) 29(-1.27,2.72) 30(-1.27,-2.72) 31(1.27,2.72) 32(1.27,-2.72) 33(3.81,2.72) 34(3.81,-2.72) 35(6.35,2.72) 36(6.35,-2.72) 37(8.89,2.72) 38(8.89,-2.72) 39(11.43,2.72) 40(11.43,-2.72) 41(13.97,2.72) 42(13.97,-2.72) 43(16.51,2.72) 44(16.51,-2.72) 45(19.05,2.72) 46(19.05,-2.72) 47(21.59,2.72) 48(21.59,-2.72) 49(24.13,2.72) 50(24.13,-2.72) 51(26.67,2.72) 52(26.67,-2.72) 53(29.21,2.72) 54(29.21,-2.72) 55(31.75,2.72) 56(31.75,-2.72) 57(34.29,2.72) 58(34.29,-2.72) 59(36.83,2.72) 60(36.83,-2.72)
  round 0.97 hole 0.97: Un1(-36.83,1.27) Un2(-36.83,-1.27) Un4(-34.29,1.27) Un5(-34.29,-1.27) Un6(-31.75,1.27) Un7(-31.75,-1.27) Un8(-29.21,1.27) Un9(-29.21,-1.27) Un10(-26.67,1.27) Un11(-26.67,-1.27) Un12(-24.13,1.27) Un13(-24.13,-1.27) Un14(-21.59,1.27) Un15(-21.59,-1.27) Un16(-19.05,1.27) Un17(-19.05,-1.27) Un18(-16.51,1.27) Un19(-16.51,-1.27) Un20(-13.97,1.27) Un21(-13.97,-1.27) Un22(-11.43,1.27) Un23(-11.43,-1.27) Un24(-8.89,1.27) Un25(-8.89,-1.27) Un26(-6.35,1.27) Un27(-6.35,-1.27) Un28(-3.81,1.27) Un29(-3.81,-1.27) Un30(-1.27,1.27) Un31(-1.27,-1.27) Un32(1.27,1.27) Un33(1.27,-1.27) Un34(3.81,1.27) Un35(3.81,-1.27) Un36(6.35,1.27) Un37(6.35,-1.27) Un38(8.89,1.27) Un39(8.89,-1.27) Un40(11.43,1.27) Un41(11.43,-1.27) Un42(13.97,1.27) Un43(13.97,-1.27) Un44(16.51,1.27) Un45(16.51,-1.27) Un46(19.05,1.27) Un47(19.05,-1.27) Un48(21.59,1.27) Un49(21.59,-1.27) Un50(24.13,1.27) Un51(24.13,-1.27) Un52(26.67,1.27) Un53(26.67,-1.27) Un54(29.21,1.27) Un55(29.21,-1.27) Un56(31.75,1.27) Un57(31.75,-1.27) Un58(34.29,1.27) Un59(34.29,-1.27) Un61(36.83,1.27) Un62(36.83,-1.27)
  round 1.78 hole 1.78: Un3(-35.56,0) Un60(35.56,0)
F.SilkS:
  lines w0.254: -37.725,-2.65 -38.21,-2.65 -38.21,2.65 -37.725,2.65 -37.725,3.56 ; -35.935,-2.65 -35.185,-2.65 ; -35.935,2.65 -35.185,2.65 ; -33.395,-2.65 -32.645,-2.65 ; -33.395,2.65 -32.645,2.65 ; -30.855,-2.65 -30.105,-2.65 ; -30.855,2.65 -30.105,2.65 ; -28.315,-2.65 -27.565,-2.65 ; -28.315,2.65 -27.565,2.65 ; -25.775,-2.65 -25.025,-2.65 ; -25.775,2.65 -25.025,2.65 ; -23.235,-2.65 -22.485,-2.65 ; -23.235,2.65 -22.485,2.65 ; -20.695,-2.65 -19.945,-2.65 ; -20.695,2.65 -19.945,2.65 ; -18.155,-2.65 -17.405,-2.65 ; -18.155,2.65 -17.405,2.65 ; -15.615,-2.65 -14.865,-2.65 ; -15.615,2.65 -14.865,2.65 ; -13.075,-2.65 -12.325,-2.65 ; -13.075,2.65 -12.325,2.65 ; -10.535,-2.65 -9.785,-2.65 ; -10.535,2.65 -9.785,2.65 ; -7.995,-2.65 -7.245,-2.65 ; -7.995,2.65 -7.245,2.65 ; -5.455,-2.65 -4.705,-2.65 ; -5.455,2.65 -4.705,2.65 ; -2.915,-2.65 -2.165,-2.65 ; -2.915,2.65 -2.165,2.65 ; -0.375,-2.65 0.375,-2.65 ; -0.375,2.65 0.375,2.65 ; 2.165,-2.65 2.915,-2.65 ; 2.165,2.65 2.915,2.65 ; 4.705,-2.65 5.455,-2.65 ; 4.705,2.65 5.455,2.65 ; 7.245,-2.65 7.995,-2.65 ; 7.245,2.65 7.995,2.65 ; 9.785,-2.65 10.535,-2.65 ; 9.785,2.65 10.535,2.65 ; 12.325,-2.65 13.075,-2.65 ; 12.325,2.65 13.075,2.65 ; 14.865,-2.65 15.615,-2.65 ; 14.865,2.65 15.615,2.65 ; 17.405,-2.65 18.155,-2.65 ; 17.405,2.65 18.155,2.65 ; 19.945,-2.65 20.695,-2.65 ; 19.945,2.65 20.695,2.65 ; 22.485,-2.65 23.235,-2.65 ; 22.485,2.65 23.235,2.65 ; 25.025,-2.65 25.775,-2.65 ; 25.025,2.65 25.775,2.65 ; 27.565,-2.65 28.315,-2.65 ; 27.565,2.65 28.315,2.65 ; 30.105,-2.65 30.855,-2.65 ; 30.105,2.65 30.855,2.65 ; 32.645,-2.65 33.395,-2.65 ; 32.645,2.65 33.395,2.65 ; 35.185,-2.65 35.935,-2.65 ; 35.185,2.65 35.935,2.65 ; 37.725,-2.65 38.21,-2.65 38.21,2.65 37.725,2.65
Top Assembly:
  lines w0.254: -37.33,2.54 -36.83,1.833 -36.33,2.54 ; -38.1,-2.54 38.1,-2.54 38.1,2.54 -38.1,2.54 -38.1,-2.54
  text "'.Designator'" at -4.047,-2.68 h1
Top Courtyard:
  lines w0.254: -38.6,-4.07 38.6,-4.07 38.6,4.07 -38.6,4.07 -38.6,-4.07
Top Designator:
  text ".Designator" at -7.618,-0.508 h1.52

## Samtec_HLE-130-02-xxx-DV-BE-LC_2x30_P2.54mm_Horizontal [mm]
pads (122):
  rect 1.27x1.68 smd: 1(-36.83,2.72) 2(-36.83,-2.72) 3(-34.29,2.72) 4(-34.29,-2.72) 5(-31.75,2.72) 6(-31.75,-2.72) 7(-29.21,2.72) 8(-29.21,-2.72) 9(-26.67,2.72) 10(-26.67,-2.72) 11(-24.13,2.72) 12(-24.13,-2.72) 13(-21.59,2.72) 14(-21.59,-2.72) 15(-19.05,2.72) 16(-19.05,-2.72) 17(-16.51,2.72) 18(-16.51,-2.72) 19(-13.97,2.72) 20(-13.97,-2.72) 21(-11.43,2.72) 22(-11.43,-2.72) 23(-8.89,2.72) 24(-8.89,-2.72) 25(-6.35,2.72) 26(-6.35,-2.72) 27(-3.81,2.72) 28(-3.81,-2.72) 29(-1.27,2.72) 30(-1.27,-2.72) 31(1.27,2.72) 32(1.27,-2.72) 33(3.81,2.72) 34(3.81,-2.72) 35(6.35,2.72) 36(6.35,-2.72) 37(8.89,2.72) 38(8.89,-2.72) 39(11.43,2.72) 40(11.43,-2.72) 41(13.97,2.72) 42(13.97,-2.72) 43(16.51,2.72) 44(16.51,-2.72) 45(19.05,2.72) 46(19.05,-2.72) 47(21.59,2.72) 48(21.59,-2.72) 49(24.13,2.72) 50(24.13,-2.72) 51(26.67,2.72) 52(26.67,-2.72) 53(29.21,2.72) 54(29.21,-2.72) 55(31.75,2.72) 56(31.75,-2.72) 57(34.29,2.72) 58(34.29,-2.72) 59(36.83,2.72) 60(36.83,-2.72)
  round 0.97 hole 0.97: Un1(-36.83,1.27) Un2(-36.83,-1.27) Un4(-34.29,1.27) Un5(-34.29,-1.27) Un6(-31.75,1.27) Un7(-31.75,-1.27) Un8(-29.21,1.27) Un9(-29.21,-1.27) Un10(-26.67,1.27) Un11(-26.67,-1.27) Un12(-24.13,1.27) Un13(-24.13,-1.27) Un14(-21.59,1.27) Un15(-21.59,-1.27) Un16(-19.05,1.27) Un17(-19.05,-1.27) Un18(-16.51,1.27) Un19(-16.51,-1.27) Un20(-13.97,1.27) Un21(-13.97,-1.27) Un22(-11.43,1.27) Un23(-11.43,-1.27) Un24(-8.89,1.27) Un25(-8.89,-1.27) Un26(-6.35,1.27) Un27(-6.35,-1.27) Un28(-3.81,1.27) Un29(-3.81,-1.27) Un30(-1.27,1.27) Un31(-1.27,-1.27) Un32(1.27,1.27) Un33(1.27,-1.27) Un34(3.81,1.27) Un35(3.81,-1.27) Un36(6.35,1.27) Un37(6.35,-1.27) Un38(8.89,1.27) Un39(8.89,-1.27) Un40(11.43,1.27) Un41(11.43,-1.27) Un42(13.97,1.27) Un43(13.97,-1.27) Un44(16.51,1.27) Un45(16.51,-1.27) Un46(19.05,1.27) Un47(19.05,-1.27) Un48(21.59,1.27) Un49(21.59,-1.27) Un50(24.13,1.27) Un51(24.13,-1.27) Un52(26.67,1.27) Un53(26.67,-1.27) Un54(29.21,1.27) Un55(29.21,-1.27) Un56(31.75,1.27) Un57(31.75,-1.27) Un58(34.29,1.27) Un59(34.29,-1.27) Un61(36.83,1.27) Un62(36.83,-1.27)
  round 1.19 hole 1.19: Un3(-35.56,0) Un60(35.56,0)
F.SilkS:
  lines w0.254: -37.725,-2.65 -38.21,-2.65 -38.21,2.65 -37.725,2.65 -37.725,3.56 ; -35.935,-2.65 -35.185,-2.65 ; -35.935,2.65 -35.185,2.65 ; -33.395,-2.65 -32.645,-2.65 ; -33.395,2.65 -32.645,2.65 ; -30.855,-2.65 -30.105,-2.65 ; -30.855,2.65 -30.105,2.65 ; -28.315,-2.65 -27.565,-2.65 ; -28.315,2.65 -27.565,2.65 ; -25.775,-2.65 -25.025,-2.65 ; -25.775,2.65 -25.025,2.65 ; -23.235,-2.65 -22.485,-2.65 ; -23.235,2.65 -22.485,2.65 ; -20.695,-2.65 -19.945,-2.65 ; -20.695,2.65 -19.945,2.65 ; -18.155,-2.65 -17.405,-2.65 ; -18.155,2.65 -17.405,2.65 ; -15.615,-2.65 -14.865,-2.65 ; -15.615,2.65 -14.865,2.65 ; -13.075,-2.65 -12.325,-2.65 ; -13.075,2.65 -12.325,2.65 ; -10.535,-2.65 -9.785,-2.65 ; -10.535,2.65 -9.785,2.65 ; -7.995,-2.65 -7.245,-2.65 ; -7.995,2.65 -7.245,2.65 ; -5.455,-2.65 -4.705,-2.65 ; -5.455,2.65 -4.705,2.65 ; -2.915,-2.65 -2.165,-2.65 ; -2.915,2.65 -2.165,2.65 ; -0.375,-2.65 0.375,-2.65 ; -0.375,2.65 0.375,2.65 ; 2.165,-2.65 2.915,-2.65 ; 2.165,2.65 2.915,2.65 ; 4.705,-2.65 5.455,-2.65 ; 4.705,2.65 5.455,2.65 ; 7.245,-2.65 7.995,-2.65 ; 7.245,2.65 7.995,2.65 ; 9.785,-2.65 10.535,-2.65 ; 9.785,2.65 10.535,2.65 ; 12.325,-2.65 13.075,-2.65 ; 12.325,2.65 13.075,2.65 ; 14.865,-2.65 15.615,-2.65 ; 14.865,2.65 15.615,2.65 ; 17.405,-2.65 18.155,-2.65 ; 17.405,2.65 18.155,2.65 ; 19.945,-2.65 20.695,-2.65 ; 19.945,2.65 20.695,2.65 ; 22.485,-2.65 23.235,-2.65 ; 22.485,2.65 23.235,2.65 ; 25.025,-2.65 25.775,-2.65 ; 25.025,2.65 25.775,2.65 ; 27.565,-2.65 28.315,-2.65 ; 27.565,2.65 28.315,2.65 ; 30.105,-2.65 30.855,-2.65 ; 30.105,2.65 30.855,2.65 ; 32.645,-2.65 33.395,-2.65 ; 32.645,2.65 33.395,2.65 ; 35.185,-2.65 35.935,-2.65 ; 35.185,2.65 35.935,2.65 ; 37.725,-2.65 38.21,-2.65 38.21,2.65 37.725,2.65
Top Assembly:
  lines w0.254: -37.33,2.54 -36.83,1.833 -36.33,2.54 ; -38.1,-2.54 38.1,-2.54 38.1,2.54 -38.1,2.54 -38.1,-2.54
  text "'.Designator'" at -4.047,-2.68 h1
Top Courtyard:
  lines w0.254: -38.6,-4.07 38.6,-4.07 38.6,4.07 -38.6,4.07 -38.6,-4.07
Top Designator:
  text ".Designator" at -7.618,-0.508 h1.52

## Samtec_HLE-130-02-xxx-DV-BE_2x30_P2.54mm_Horizontal [mm]
pads (120):
  rect 1.27x1.68 smd: 1(-36.83,2.72) 2(-36.83,-2.72) 3(-34.29,2.72) 4(-34.29,-2.72) 5(-31.75,2.72) 6(-31.75,-2.72) 7(-29.21,2.72) 8(-29.21,-2.72) 9(-26.67,2.72) 10(-26.67,-2.72) 11(-24.13,2.72) 12(-24.13,-2.72) 13(-21.59,2.72) 14(-21.59,-2.72) 15(-19.05,2.72) 16(-19.05,-2.72) 17(-16.51,2.72) 18(-16.51,-2.72) 19(-13.97,2.72) 20(-13.97,-2.72) 21(-11.43,2.72) 22(-11.43,-2.72) 23(-8.89,2.72) 24(-8.89,-2.72) 25(-6.35,2.72) 26(-6.35,-2.72) 27(-3.81,2.72) 28(-3.81,-2.72) 29(-1.27,2.72) 30(-1.27,-2.72) 31(1.27,2.72) 32(1.27,-2.72) 33(3.81,2.72) 34(3.81,-2.72) 35(6.35,2.72) 36(6.35,-2.72) 37(8.89,2.72) 38(8.89,-2.72) 39(11.43,2.72) 40(11.43,-2.72) 41(13.97,2.72) 42(13.97,-2.72) 43(16.51,2.72) 44(16.51,-2.72) 45(19.05,2.72) 46(19.05,-2.72) 47(21.59,2.72) 48(21.59,-2.72) 49(24.13,2.72) 50(24.13,-2.72) 51(26.67,2.72) 52(26.67,-2.72) 53(29.21,2.72) 54(29.21,-2.72) 55(31.75,2.72) 56(31.75,-2.72) 57(34.29,2.72) 58(34.29,-2.72) 59(36.83,2.72) 60(36.83,-2.72)
  round 0.97 hole 0.97: Un1(-36.83,1.27) Un2(-36.83,-1.27) Un3(-34.29,1.27) Un4(-34.29,-1.27) Un5(-31.75,1.27) Un6(-31.75,-1.27) Un7(-29.21,1.27) Un8(-29.21,-1.27) Un9(-26.67,1.27) Un10(-26.67,-1.27) Un11(-24.13,1.27) Un12(-24.13,-1.27) Un13(-21.59,1.27) Un14(-21.59,-1.27) Un15(-19.05,1.27) Un16(-19.05,-1.27) Un17(-16.51,1.27) Un18(-16.51,-1.27) Un19(-13.97,1.27) Un20(-13.97,-1.27) Un21(-11.43,1.27) Un22(-11.43,-1.27) Un23(-8.89,1.27) Un24(-8.89,-1.27) Un25(-6.35,1.27) Un26(-6.35,-1.27) Un27(-3.81,1.27) Un28(-3.81,-1.27) Un29(-1.27,1.27) Un30(-1.27,-1.27) Un31(1.27,1.27) Un32(1.27,-1.27) Un33(3.81,1.27) Un34(3.81,-1.27) Un35(6.35,1.27) Un36(6.35,-1.27) Un37(8.89,1.27) Un38(8.89,-1.27) Un39(11.43,1.27) Un40(11.43,-1.27) Un41(13.97,1.27) Un42(13.97,-1.27) Un43(16.51,1.27) Un44(16.51,-1.27) Un45(19.05,1.27) Un46(19.05,-1.27) Un47(21.59,1.27) Un48(21.59,-1.27) Un49(24.13,1.27) Un50(24.13,-1.27) Un51(26.67,1.27) Un52(26.67,-1.27) Un53(29.21,1.27) Un54(29.21,-1.27) Un55(31.75,1.27) Un56(31.75,-1.27) Un57(34.29,1.27) Un58(34.29,-1.27) Un59(36.83,1.27) Un60(36.83,-1.27)
F.SilkS:
  lines w0.254: -37.725,-2.65 -38.21,-2.65 -38.21,2.65 -37.725,2.65 -37.725,3.56 ; -35.935,-2.65 -35.185,-2.65 ; -35.935,2.65 -35.185,2.65 ; -33.395,-2.65 -32.645,-2.65 ; -33.395,2.65 -32.645,2.65 ; -30.855,-2.65 -30.105,-2.65 ; -30.855,2.65 -30.105,2.65 ; -28.315,-2.65 -27.565,-2.65 ; -28.315,2.65 -27.565,2.65 ; -25.775,-2.65 -25.025,-2.65 ; -25.775,2.65 -25.025,2.65 ; -23.235,-2.65 -22.485,-2.65 ; -23.235,2.65 -22.485,2.65 ; -20.695,-2.65 -19.945,-2.65 ; -20.695,2.65 -19.945,2.65 ; -18.155,-2.65 -17.405,-2.65 ; -18.155,2.65 -17.405,2.65 ; -15.615,-2.65 -14.865,-2.65 ; -15.615,2.65 -14.865,2.65 ; -13.075,-2.65 -12.325,-2.65 ; -13.075,2.65 -12.325,2.65 ; -10.535,-2.65 -9.785,-2.65 ; -10.535,2.65 -9.785,2.65 ; -7.995,-2.65 -7.245,-2.65 ; -7.995,2.65 -7.245,2.65 ; -5.455,-2.65 -4.705,-2.65 ; -5.455,2.65 -4.705,2.65 ; -2.915,-2.65 -2.165,-2.65 ; -2.915,2.65 -2.165,2.65 ; -0.375,-2.65 0.375,-2.65 ; -0.375,2.65 0.375,2.65 ; 2.165,-2.65 2.915,-2.65 ; 2.165,2.65 2.915,2.65 ; 4.705,-2.65 5.455,-2.65 ; 4.705,2.65 5.455,2.65 ; 7.245,-2.65 7.995,-2.65 ; 7.245,2.65 7.995,2.65 ; 9.785,-2.65 10.535,-2.65 ; 9.785,2.65 10.535,2.65 ; 12.325,-2.65 13.075,-2.65 ; 12.325,2.65 13.075,2.65 ; 14.865,-2.65 15.615,-2.65 ; 14.865,2.65 15.615,2.65 ; 17.405,-2.65 18.155,-2.65 ; 17.405,2.65 18.155,2.65 ; 19.945,-2.65 20.695,-2.65 ; 19.945,2.65 20.695,2.65 ; 22.485,-2.65 23.235,-2.65 ; 22.485,2.65 23.235,2.65 ; 25.025,-2.65 25.775,-2.65 ; 25.025,2.65 25.775,2.65 ; 27.565,-2.65 28.315,-2.65 ; 27.565,2.65 28.315,2.65 ; 30.105,-2.65 30.855,-2.65 ; 30.105,2.65 30.855,2.65 ; 32.645,-2.65 33.395,-2.65 ; 32.645,2.65 33.395,2.65 ; 35.185,-2.65 35.935,-2.65 ; 35.185,2.65 35.935,2.65 ; 37.725,-2.65 38.21,-2.65 38.21,2.65 37.725,2.65
Top Assembly:
  lines w0.254: -37.33,2.54 -36.83,1.833 -36.33,2.54 ; -38.1,-2.54 38.1,-2.54 38.1,2.54 -38.1,2.54 -38.1,-2.54
  text "'.Designator'" at -4.047,-2.68 h1
Top Courtyard:
  lines w0.254: -38.6,-4.07 38.6,-4.07 38.6,4.07 -38.6,4.07 -38.6,-4.07
Top Designator:
  text ".Designator" at -7.618,-0.508 h1.52

## Samtec_HLE-130-02-xxx-DV-LC_2x30_P2.54mm_Horizontal [mm]
pads (62):
  rect 1.27x2.29 smd: 1(-36.83,2.525) 2(-36.83,-2.525) 3(-34.29,2.525) 4(-34.29,-2.525) 5(-31.75,2.525) 6(-31.75,-2.525) 7(-29.21,2.525) 8(-29.21,-2.525) 9(-26.67,2.525) 10(-26.67,-2.525) 11(-24.13,2.525) 12(-24.13,-2.525) 13(-21.59,2.525) 14(-21.59,-2.525) 15(-19.05,2.525) 16(-19.05,-2.525) 17(-16.51,2.525) 18(-16.51,-2.525) 19(-13.97,2.525) 20(-13.97,-2.525) 21(-11.43,2.525) 22(-11.43,-2.525) 23(-8.89,2.525) 24(-8.89,-2.525) 25(-6.35,2.525) 26(-6.35,-2.525) 27(-3.81,2.525) 28(-3.81,-2.525) 29(-1.27,2.525) 30(-1.27,-2.525) 31(1.27,2.525) 32(1.27,-2.525) 33(3.81,2.525) 34(3.81,-2.525) 35(6.35,2.525) 36(6.35,-2.525) 37(8.89,2.525) 38(8.89,-2.525) 39(11.43,2.525) 40(11.43,-2.525) 41(13.97,2.525) 42(13.97,-2.525) 43(16.51,2.525) 44(16.51,-2.525) 45(19.05,2.525) 46(19.05,-2.525) 47(21.59,2.525) 48(21.59,-2.525) 49(24.13,2.525) 50(24.13,-2.525) 51(26.67,2.525) 52(26.67,-2.525) 53(29.21,2.525) 54(29.21,-2.525) 55(31.75,2.525) 56(31.75,-2.525) 57(34.29,2.525) 58(34.29,-2.525) 59(36.83,2.525) 60(36.83,-2.525)
  round 1.19 hole 1.19: Un1(-35.56,0) Un2(35.56,0)
F.SilkS:
  lines w0.254: -37.725,-2.65 -38.21,-2.65 -38.21,2.65 -37.725,2.65 -37.725,3.67 ; -35.935,-2.65 -35.185,-2.65 ; -35.935,2.65 -35.185,2.65 ; -33.395,-2.65 -32.645,-2.65 ; -33.395,2.65 -32.645,2.65 ; -30.855,-2.65 -30.105,-2.65 ; -30.855,2.65 -30.105,2.65 ; -28.315,-2.65 -27.565,-2.65 ; -28.315,2.65 -27.565,2.65 ; -25.775,-2.65 -25.025,-2.65 ; -25.775,2.65 -25.025,2.65 ; -23.235,-2.65 -22.485,-2.65 ; -23.235,2.65 -22.485,2.65 ; -20.695,-2.65 -19.945,-2.65 ; -20.695,2.65 -19.945,2.65 ; -18.155,-2.65 -17.405,-2.65 ; -18.155,2.65 -17.405,2.65 ; -15.615,-2.65 -14.865,-2.65 ; -15.615,2.65 -14.865,2.65 ; -13.075,-2.65 -12.325,-2.65 ; -13.075,2.65 -12.325,2.65 ; -10.535,-2.65 -9.785,-2.65 ; -10.535,2.65 -9.785,2.65 ; -7.995,-2.65 -7.245,-2.65 ; -7.995,2.65 -7.245,2.65 ; -5.455,-2.65 -4.705,-2.65 ; -5.455,2.65 -4.705,2.65 ; -2.915,-2.65 -2.165,-2.65 ; -2.915,2.65 -2.165,2.65 ; -0.375,-2.65 0.375,-2.65 ; -0.375,2.65 0.375,2.65 ; 2.165,-2.65 2.915,-2.65 ; 2.165,2.65 2.915,2.65 ; 4.705,-2.65 5.455,-2.65 ; 4.705,2.65 5.455,2.65 ; 7.245,-2.65 7.995,-2.65 ; 7.245,2.65 7.995,2.65 ; 9.785,-2.65 10.535,-2.65 ; 9.785,2.65 10.535,2.65 ; 12.325,-2.65 13.075,-2.65 ; 12.325,2.65 13.075,2.65 ; 14.865,-2.65 15.615,-2.65 ; 14.865,2.65 15.615,2.65 ; 17.405,-2.65 18.155,-2.65 ; 17.405,2.65 18.155,2.65 ; 19.945,-2.65 20.695,-2.65 ; 19.945,2.65 20.695,2.65 ; 22.485,-2.65 23.235,-2.65 ; 22.485,2.65 23.235,2.65 ; 25.025,-2.65 25.775,-2.65 ; 25.025,2.65 25.775,2.65 ; 27.565,-2.65 28.315,-2.65 ; 27.565,2.65 28.315,2.65 ; 30.105,-2.65 30.855,-2.65 ; 30.105,2.65 30.855,2.65 ; 32.645,-2.65 33.395,-2.65 ; 32.645,2.65 33.395,2.65 ; 35.185,-2.65 35.935,-2.65 ; 35.185,2.65 35.935,2.65 ; 37.725,-2.65 38.21,-2.65 38.21,2.65 37.725,2.65
Top Assembly:
  lines w0.254: -37.33,2.54 -36.83,1.833 -36.33,2.54 ; -38.1,-2.54 38.1,-2.54 38.1,2.54 -38.1,2.54 -38.1,-2.54
  text "'.Designator'" at -4.047,-2.68 h1
Top Courtyard:
  lines w0.254: -38.6,-4.17 38.6,-4.17 38.6,4.17 -38.6,4.17 -38.6,-4.17
Top Designator:
  text ".Designator" at -7.618,-0.508 h1.52

## Samtec_HLE-130-02-xxx-DV_2x30_P2.54mm_Horizontal [mm]
pads (60):
  rect 1.27x2.29 smd: 1(-36.83,2.525) 2(-36.83,-2.525) 3(-34.29,2.525) 4(-34.29,-2.525) 5(-31.75,2.525) 6(-31.75,-2.525) 7(-29.21,2.525) 8(-29.21,-2.525) 9(-26.67,2.525) 10(-26.67,-2.525) 11(-24.13,2.525) 12(-24.13,-2.525) 13(-21.59,2.525) 14(-21.59,-2.525) 15(-19.05,2.525) 16(-19.05,-2.525) 17(-16.51,2.525) 18(-16.51,-2.525) 19(-13.97,2.525) 20(-13.97,-2.525) 21(-11.43,2.525) 22(-11.43,-2.525) 23(-8.89,2.525) 24(-8.89,-2.525) 25(-6.35,2.525) 26(-6.35,-2.525) 27(-3.81,2.525) 28(-3.81,-2.525) 29(-1.27,2.525) 30(-1.27,-2.525) 31(1.27,2.525) 32(1.27,-2.525) 33(3.81,2.525) 34(3.81,-2.525) 35(6.35,2.525) 36(6.35,-2.525) 37(8.89,2.525) 38(8.89,-2.525) 39(11.43,2.525) 40(11.43,-2.525) 41(13.97,2.525) 42(13.97,-2.525) 43(16.51,2.525) 44(16.51,-2.525) 45(19.05,2.525) 46(19.05,-2.525) 47(21.59,2.525) 48(21.59,-2.525) 49(24.13,2.525) 50(24.13,-2.525) 51(26.67,2.525) 52(26.67,-2.525) 53(29.21,2.525) 54(29.21,-2.525) 55(31.75,2.525) 56(31.75,-2.525) 57(34.29,2.525) 58(34.29,-2.525) 59(36.83,2.525) 60(36.83,-2.525)
F.SilkS:
  lines w0.254: -37.725,-2.65 -38.21,-2.65 -38.21,2.65 -37.725,2.65 -37.725,3.67 ; -35.935,-2.65 -35.185,-2.65 ; -35.935,2.65 -35.185,2.65 ; -33.395,-2.65 -32.645,-2.65 ; -33.395,2.65 -32.645,2.65 ; -30.855,-2.65 -30.105,-2.65 ; -30.855,2.65 -30.105,2.65 ; -28.315,-2.65 -27.565,-2.65 ; -28.315,2.65 -27.565,2.65 ; -25.775,-2.65 -25.025,-2.65 ; -25.775,2.65 -25.025,2.65 ; -23.235,-2.65 -22.485,-2.65 ; -23.235,2.65 -22.485,2.65 ; -20.695,-2.65 -19.945,-2.65 ; -20.695,2.65 -19.945,2.65 ; -18.155,-2.65 -17.405,-2.65 ; -18.155,2.65 -17.405,2.65 ; -15.615,-2.65 -14.865,-2.65 ; -15.615,2.65 -14.865,2.65 ; -13.075,-2.65 -12.325,-2.65 ; -13.075,2.65 -12.325,2.65 ; -10.535,-2.65 -9.785,-2.65 ; -10.535,2.65 -9.785,2.65 ; -7.995,-2.65 -7.245,-2.65 ; -7.995,2.65 -7.245,2.65 ; -5.455,-2.65 -4.705,-2.65 ; -5.455,2.65 -4.705,2.65 ; -2.915,-2.65 -2.165,-2.65 ; -2.915,2.65 -2.165,2.65 ; -0.375,-2.65 0.375,-2.65 ; -0.375,2.65 0.375,2.65 ; 2.165,-2.65 2.915,-2.65 ; 2.165,2.65 2.915,2.65 ; 4.705,-2.65 5.455,-2.65 ; 4.705,2.65 5.455,2.65 ; 7.245,-2.65 7.995,-2.65 ; 7.245,2.65 7.995,2.65 ; 9.785,-2.65 10.535,-2.65 ; 9.785,2.65 10.535,2.65 ; 12.325,-2.65 13.075,-2.65 ; 12.325,2.65 13.075,2.65 ; 14.865,-2.65 15.615,-2.65 ; 14.865,2.65 15.615,2.65 ; 17.405,-2.65 18.155,-2.65 ; 17.405,2.65 18.155,2.65 ; 19.945,-2.65 20.695,-2.65 ; 19.945,2.65 20.695,2.65 ; 22.485,-2.65 23.235,-2.65 ; 22.485,2.65 23.235,2.65 ; 25.025,-2.65 25.775,-2.65 ; 25.025,2.65 25.775,2.65 ; 27.565,-2.65 28.315,-2.65 ; 27.565,2.65 28.315,2.65 ; 30.105,-2.65 30.855,-2.65 ; 30.105,2.65 30.855,2.65 ; 32.645,-2.65 33.395,-2.65 ; 32.645,2.65 33.395,2.65 ; 35.185,-2.65 35.935,-2.65 ; 35.185,2.65 35.935,2.65 ; 37.725,-2.65 38.21,-2.65 38.21,2.65 37.725,2.65
Top Assembly:
  lines w0.254: -37.33,2.54 -36.83,1.833 -36.33,2.54 ; -38.1,-2.54 38.1,-2.54 38.1,2.54 -38.1,2.54 -38.1,-2.54
  text "'.Designator'" at -4.047,-2.68 h1
Top Courtyard:
  lines w0.254: -38.6,-4.17 38.6,-4.17 38.6,4.17 -38.6,4.17 -38.6,-4.17
Top Designator:
  text ".Designator" at -7.618,-0.508 h1.52